# EAGLE library part MIC2290 (library ModernDeviceOldWorkingBest)
PWM Boost Regulator with Internal Schottky Diode Source: http://www.micrel.com/_PDF/mic2290.pdf
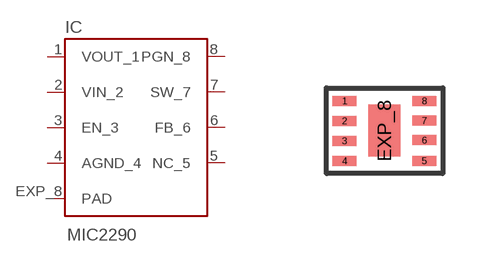
[diagram p82: symbol with the pads of MLF8; footprint MLF8]

Designator prefix IC

## MIC2290  [MLF8]
1  VOUT_1  in
2  VIN_2  in
3  EN_3  in
4  AGND_4  in
5  NC_5  in
6  FB_6  in
7  SW_7  oc
8  PGN_8  oc
EXP_8  PAD

## Footprint MLF8 (pad centres in mm)
MLF 10 (ML) 2.5 x 2.5 mm, 10-Pin Package Source: Source: http://www.micrel.com/_PDF/mic2297.pdf
smd 0.6 x 0.25: 1 -1,0.746; 2 -1,0.246; 3 -1,-0.254; 4 -1,-0.754; 5 1,-0.754; 6 1,-0.238; 7 1,0.252; 8 1,0.746
smd 0.8 x 1.3: EXP_8 0,0